# Altium footprint library MUN12AD06-SM.PcbLib: 3 footprints
Each footprint in its own frame and in the unit in brackets; x right, y up, seen from the top. Pads: shape width x height; smd on the part's side, far side on the other; paste and mask are expansions set on the pad; w line width, h text height; cw(c..) or ccw(c..) is an arc to the next point about the centre after c.
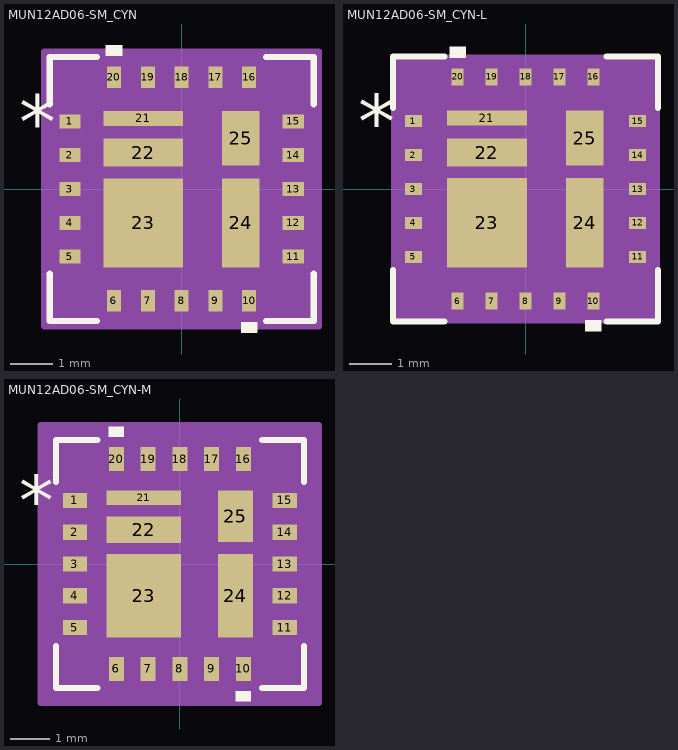
[diagram p0: the footprints below, top view; thin cyan lines are the x and y axes]

## MUN12AD06-SM_CYN [mil]
pads (25):
  rect 20x13 smd paste+0 mask+0: 1(-104,62.99) 2(-104,31.5) 3(-104,0) 4(-104,-31.5) 5(-104,-62.99) 11(104,-62.99) 12(104,-31.5) 13(104,0) 14(104,31.5) 15(104,62.99)
  rect 13x20 smd paste+0 mask+0: 6(-62.99,-104) 7(-31.5,-104) 8(0,-104) 9(31.5,-104) 10(62.99,-104) 16(62.99,104) 17(31.5,104) 18(0,104) 19(-31.5,104) 20(-62.99,104)
  rect 74x14 smd paste+0 mask+0: 21(-35.83,65.75)
  rect 74x26 smd paste+0 mask+0: 22(-35.83,33.86)
  rect 74x83 smd paste+0 mask+0: 23(-35.83,-31.5)
  rect 35x83 smd paste+0 mask+0: 24(55.12,-31.5)
  rect 35x51 smd paste+0 mask+0: 25(55.12,47.24)
Top Overlay:
  region: 70.49,-124 55.49,-124 55.49,-134 70.49,-134
  region: -55.49,124 -70.49,124 -70.49,134 -55.49,134
  lines w6: -123,-79.01 -123,-123 -79.01,-123 ; -123,79.01 -123,123 -79.01,123 ; 79.01,-123 123,-123 123,-79.01 ; 79.01,123 123,123 123,79.01
  text "*" at -151.5,37.99 h50
Mechanical 13:
  lines w1: -118,68 -68,118 ; -118,-118 118,-118 118,118 -118,118 -118,-118 ; -118,-69.49 -118,-56.49 -114,-56.49 -114,-69.49 -118,-69.49 ; -118,-38 -118,-25 -114,-25 -114,-38 -118,-38 ; -118,-6.5 -118,6.5 -114,6.5 -114,-6.5 -118,-6.5 ; -118,25 -118,38 -114,38 -114,25 -118,25 ; -118,56.49 -118,69.49 -114,69.49 -114,56.49 -118,56.49 ; -69.49,-118 -56.49,-118 -56.49,-114 -69.49,-114 -69.49,-118 ; -69.49,114 -56.49,114 -56.49,118 -69.49,118 -69.49,114 ; -38,-118 -25,-118 -25,-114 -38,-114 -38,-118 ; -38,114 -25,114 -25,118 -38,118 -38,114 ; -6.5,-118 6.5,-118 6.5,-114 -6.5,-114 -6.5,-118 ; -6.5,114 6.5,114 6.5,118 -6.5,118 -6.5,114 ; 25,-118 38,-118 38,-114 25,-114 25,-118 ; 25,114 38,114 38,118 25,118 25,114 ; 56.49,-118 69.49,-118 69.49,-114 56.49,-114 56.49,-118 ; 56.49,114 69.49,114 69.49,118 56.49,118 56.49,114 ; 114,-69.49 118,-69.49 118,-56.49 114,-56.49 114,-69.49 ; 114,-38 118,-38 118,-25 114,-25 114,-38 ; 114,-6.5 118,-6.5 118,6.5 114,6.5 114,-6.5 ; 114,25 118,25 118,38 114,38 114,25 ; 114,56.49 118,56.49 118,69.49 114,69.49 114,56.49
  text "*" at -81.5,37.99 h50
Mechanical 15:
  region: -79.49,-128 -128,-128 -128,-79.49 -128,79.49 -128,128 -79.49,128 79.49,128 128,128 128,79.49 128,-79.49 128,-128 79.49,-128
  lines w6: -128,-79.49 -128,-128 -79.49,-128 ; -128,-79.49 -128,-79.49 ; -128,-79.49 -128,79.49 ; -128,79.49 -128,79.49 ; -128,79.49 -128,128 -79.49,128 ; -79.49,-128 79.49,-128 ; -79.49,-128 -79.49,-128 ; -79.49,128 -79.49,128 ; -79.49,128 79.49,128 ; 79.49,-128 128,-128 128,-79.49 ; 79.49,-128 79.49,-128 ; 79.49,128 79.49,128 ; 79.49,128 128,128 128,79.49 ; 128,-79.49 128,79.49 ; 128,-79.49 128,-79.49 ; 128,79.49 128,79.49
3D body "MUN12AD06-SM_CYN.step": height 138.11, standoff 0, extent -117.99,-117.99 117.99,117.99

## MUN12AD06-SM_CYN-L [mil]
pads (25):
  rect 16x11 smd paste+0 mask+0: 1(-104,62.99) 2(-104,31.5) 3(-104,0) 4(-104,-31.5) 5(-104,-62.99) 11(104,-62.99) 12(104,-31.5) 13(104,0) 14(104,31.5) 15(104,62.99)
  rect 11x16 smd paste+0 mask+0: 6(-62.99,-104) 7(-31.5,-104) 8(0,-104) 9(31.5,-104) 10(62.99,-104) 16(62.99,104) 17(31.5,104) 18(0,104) 19(-31.5,104) 20(-62.99,104)
  rect 74x14 smd paste+0 mask+0: 21(-35.83,65.75)
  rect 74x26 smd paste+0 mask+0: 22(-35.83,33.86)
  rect 74x83 smd paste+0 mask+0: 23(-35.83,-31.5)
  rect 35x83 smd paste+0 mask+0: 24(55.12,-31.5)
  rect 35x51 smd paste+0 mask+0: 25(55.12,47.24)
Top Overlay:
  region: 70.49,-122 55.49,-122 55.49,-132 70.49,-132
  region: -55.49,122 -70.49,122 -70.49,132 -55.49,132
  lines w6: -123,-75.61 -123,-123 -75.61,-123 ; -123,75.61 -123,123 -75.61,123 ; 75.61,-123 123,-123 123,-75.61 ; 75.61,123 123,123 123,75.61
  text "*" at -155.5,37.99 h50
Mechanical 13:
  lines w1: -118,68 -68,118 ; -118,-118 118,-118 118,118 -118,118 -118,-118 ; -118,-69.49 -118,-56.49 -114,-56.49 -114,-69.49 -118,-69.49 ; -118,-38 -118,-25 -114,-25 -114,-38 -118,-38 ; -118,-6.5 -118,6.5 -114,6.5 -114,-6.5 -118,-6.5 ; -118,25 -118,38 -114,38 -114,25 -118,25 ; -118,56.49 -118,69.49 -114,69.49 -114,56.49 -118,56.49 ; -69.49,-118 -56.49,-118 -56.49,-114 -69.49,-114 -69.49,-118 ; -69.49,114 -56.49,114 -56.49,118 -69.49,118 -69.49,114 ; -38,-118 -25,-118 -25,-114 -38,-114 -38,-118 ; -38,114 -25,114 -25,118 -38,118 -38,114 ; -6.5,-118 6.5,-118 6.5,-114 -6.5,-114 -6.5,-118 ; -6.5,114 6.5,114 6.5,118 -6.5,118 -6.5,114 ; 25,-118 38,-118 38,-114 25,-114 25,-118 ; 25,114 38,114 38,118 25,118 25,114 ; 56.49,-118 69.49,-118 69.49,-114 56.49,-114 56.49,-118 ; 56.49,114 69.49,114 69.49,118 56.49,118 56.49,114 ; 114,-69.49 118,-69.49 118,-56.49 114,-56.49 114,-69.49 ; 114,-38 118,-38 118,-25 114,-25 114,-38 ; 114,-6.5 118,-6.5 118,6.5 114,6.5 114,-6.5 ; 114,25 118,25 118,38 114,38 114,25 ; 114,56.49 118,56.49 118,69.49 114,69.49 114,56.49
  text "*" at -77.5,37.99 h50
Mechanical 15:
  region: -72.49,-122 -122,-122 -122,-72.49 -122,72.49 -122,122 -72.49,122 72.49,122 122,122 122,72.49 122,-72.49 122,-122 72.49,-122
  lines w6: -122,-72.49 -122,-122 -72.49,-122 ; -122,-72.49 -122,-72.49 ; -122,-72.49 -122,72.49 ; -122,72.49 -122,72.49 ; -122,72.49 -122,122 -72.49,122 ; -72.49,-122 72.49,-122 ; -72.49,-122 -72.49,-122 ; -72.49,122 -72.49,122 ; -72.49,122 72.49,122 ; 72.49,-122 122,-122 122,-72.49 ; 72.49,-122 72.49,-122 ; 72.49,122 72.49,122 ; 72.49,122 122,122 122,72.49 ; 122,-72.49 122,72.49 ; 122,-72.49 122,-72.49 ; 122,72.49 122,72.49
3D body "MUN12AD06-SM_CYN.step": height 138.11, standoff 0, extent -117.99,-117.99 117.99,117.99

## MUN12AD06-SM_CYN-M [mil]
pads (25):
  rect 24x15 smd paste+0 mask+0: 1(-104,62.99) 2(-104,31.5) 3(-104,0) 4(-104,-31.5) 5(-104,-62.99) 11(104,-62.99) 12(104,-31.5) 13(104,0) 14(104,31.5) 15(104,62.99)
  rect 15x24 smd paste+0 mask+0: 6(-62.99,-104) 7(-31.5,-104) 8(0,-104) 9(31.5,-104) 10(62.99,-104) 16(62.99,104) 17(31.5,104) 18(0,104) 19(-31.5,104) 20(-62.99,104)
  rect 74x14 smd paste+0 mask+0: 21(-35.83,65.75)
  rect 74x26 smd paste+0 mask+0: 22(-35.83,33.86)
  rect 74x83 smd paste+0 mask+0: 23(-35.83,-31.5)
  rect 35x83 smd paste+0 mask+0: 24(55.12,-31.5)
  rect 35x51 smd paste+0 mask+0: 25(55.12,47.24)
Top Overlay:
  region: 70.49,-126 55.49,-126 55.49,-136 70.49,-136
  region: -55.49,126 -70.49,126 -70.49,136 -55.49,136
  lines w6: -123,-81.56 -123,-123 -81.56,-123 ; -123,81.56 -123,123 -81.56,123 ; 81.56,-123 123,-123 123,-81.56 ; 81.56,123 123,123 123,81.56
  text "*" at -159.5,37.99 h50
Mechanical 13:
  lines w1: -118,68 -68,118 ; -118,-118 118,-118 118,118 -118,118 -118,-118 ; -118,-69.49 -118,-56.49 -114,-56.49 -114,-69.49 -118,-69.49 ; -118,-38 -118,-25 -114,-25 -114,-38 -118,-38 ; -118,-6.5 -118,6.5 -114,6.5 -114,-6.5 -118,-6.5 ; -118,25 -118,38 -114,38 -114,25 -118,25 ; -118,56.49 -118,69.49 -114,69.49 -114,56.49 -118,56.49 ; -69.49,-118 -56.49,-118 -56.49,-114 -69.49,-114 -69.49,-118 ; -69.49,114 -56.49,114 -56.49,118 -69.49,118 -69.49,114 ; -38,-118 -25,-118 -25,-114 -38,-114 -38,-118 ; -38,114 -25,114 -25,118 -38,118 -38,114 ; -6.5,-118 6.5,-118 6.5,-114 -6.5,-114 -6.5,-118 ; -6.5,114 6.5,114 6.5,118 -6.5,118 -6.5,114 ; 25,-118 38,-118 38,-114 25,-114 25,-118 ; 25,114 38,114 38,118 25,118 25,114 ; 56.49,-118 69.49,-118 69.49,-114 56.49,-114 56.49,-118 ; 56.49,114 69.49,114 69.49,118 56.49,118 56.49,114 ; 114,-69.49 118,-69.49 118,-56.49 114,-56.49 114,-69.49 ; 114,-38 118,-38 118,-25 114,-25 114,-38 ; 114,-6.5 118,-6.5 118,6.5 114,6.5 114,-6.5 ; 114,25 118,25 118,38 114,38 114,25 ; 114,56.49 118,56.49 118,69.49 114,69.49 114,56.49
  text "*" at -73.5,37.99 h50
Mechanical 15:
  region: -90.49,-138 -138,-138 -138,-90.49 -138,90.49 -138,138 -90.49,138 90.49,138 138,138 138,90.49 138,-90.49 138,-138 90.49,-138
  lines w6: -138,-90.49 -138,-138 -90.49,-138 ; -138,-90.49 -138,-90.49 ; -138,-90.49 -138,90.49 ; -138,90.49 -138,90.49 ; -138,90.49 -138,138 -90.49,138 ; -90.49,-138 90.49,-138 ; -90.49,-138 -90.49,-138 ; -90.49,138 -90.49,138 ; -90.49,138 90.49,138 ; 90.49,-138 138,-138 138,-90.49 ; 90.49,-138 90.49,-138 ; 90.49,138 90.49,138 ; 90.49,138 138,138 138,90.49 ; 138,-90.49 138,90.49 ; 138,-90.49 138,-90.49 ; 138,90.49 138,90.49
3D body "MUN12AD06-SM_CYN.step": height 138.11, standoff 0, extent -117.99,-117.99 117.99,117.99